# Altium footprint library SO-28W.PcbLib: 1 footprints
Each footprint in its own frame and in the unit in brackets; x right, y up, seen from the top. Pads: shape width x height; smd on the part's side, far side on the other; paste and mask are expansions set on the pad; w line width, h text height; cw(c..) or ccw(c..) is an arc to the next point about the centre after c.
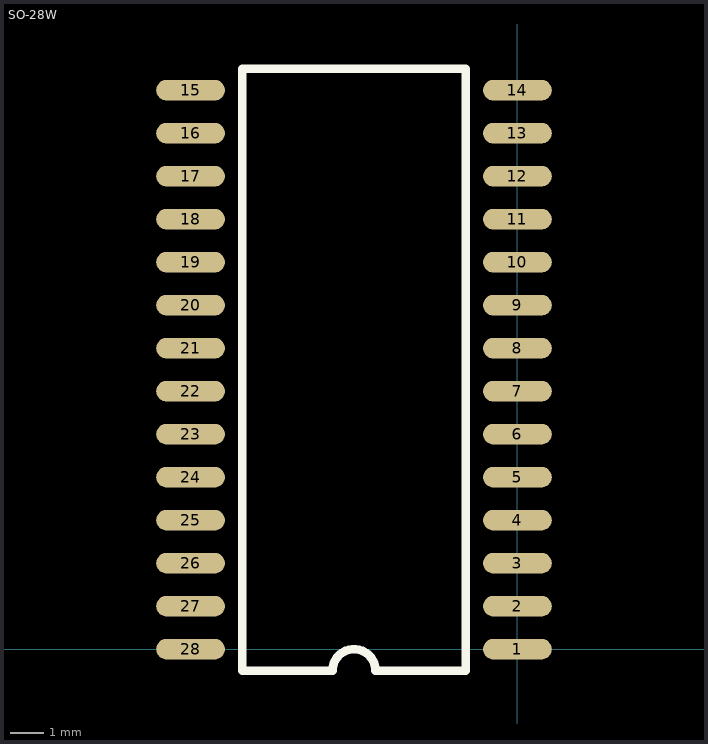
[diagram p0: the footprint, top view; thin cyan lines are the x and y axes]

## SO-28W [mil]
height 110
pads (28):
  oval 80x24 smd: 1(0,0) 2(0,50) 3(0,100) 4(0,150) 5(0,200) 6(0,250) 7(0,300) 8(0,350) 9(0,400) 10(0,450) 11(0,500) 12(0,550) 13(0,600) 14(0,650) 15(-380,650) 16(-380,600) 17(-380,550) 18(-380,500) 19(-380,450) 20(-380,400) 21(-380,350) 22(-380,300) 23(-380,250) 24(-380,200) 25(-380,150) 26(-380,100) 27(-380,50) 28(-380,0)
TopOverlay:
  lines w10: -320,-25 -215,-25 cw(c-190,-25) -165,-25 -60,-25 -60,675 -320,675 -320,-25
Mechanical4:
  text "0.103" at 0,0 h1